# Altium footprint library Blueberry_digital.PcbLib: 39 footprints (part 1 of 3)
Each footprint in its own frame and in the unit in brackets; x right, y up, seen from the top. Pads: shape width x height; smd on the part's side, far side on the other; paste and mask are expansions set on the pad; w line width, h text height; cw(c..) or ccw(c..) is an arc to the next point about the centre after c.
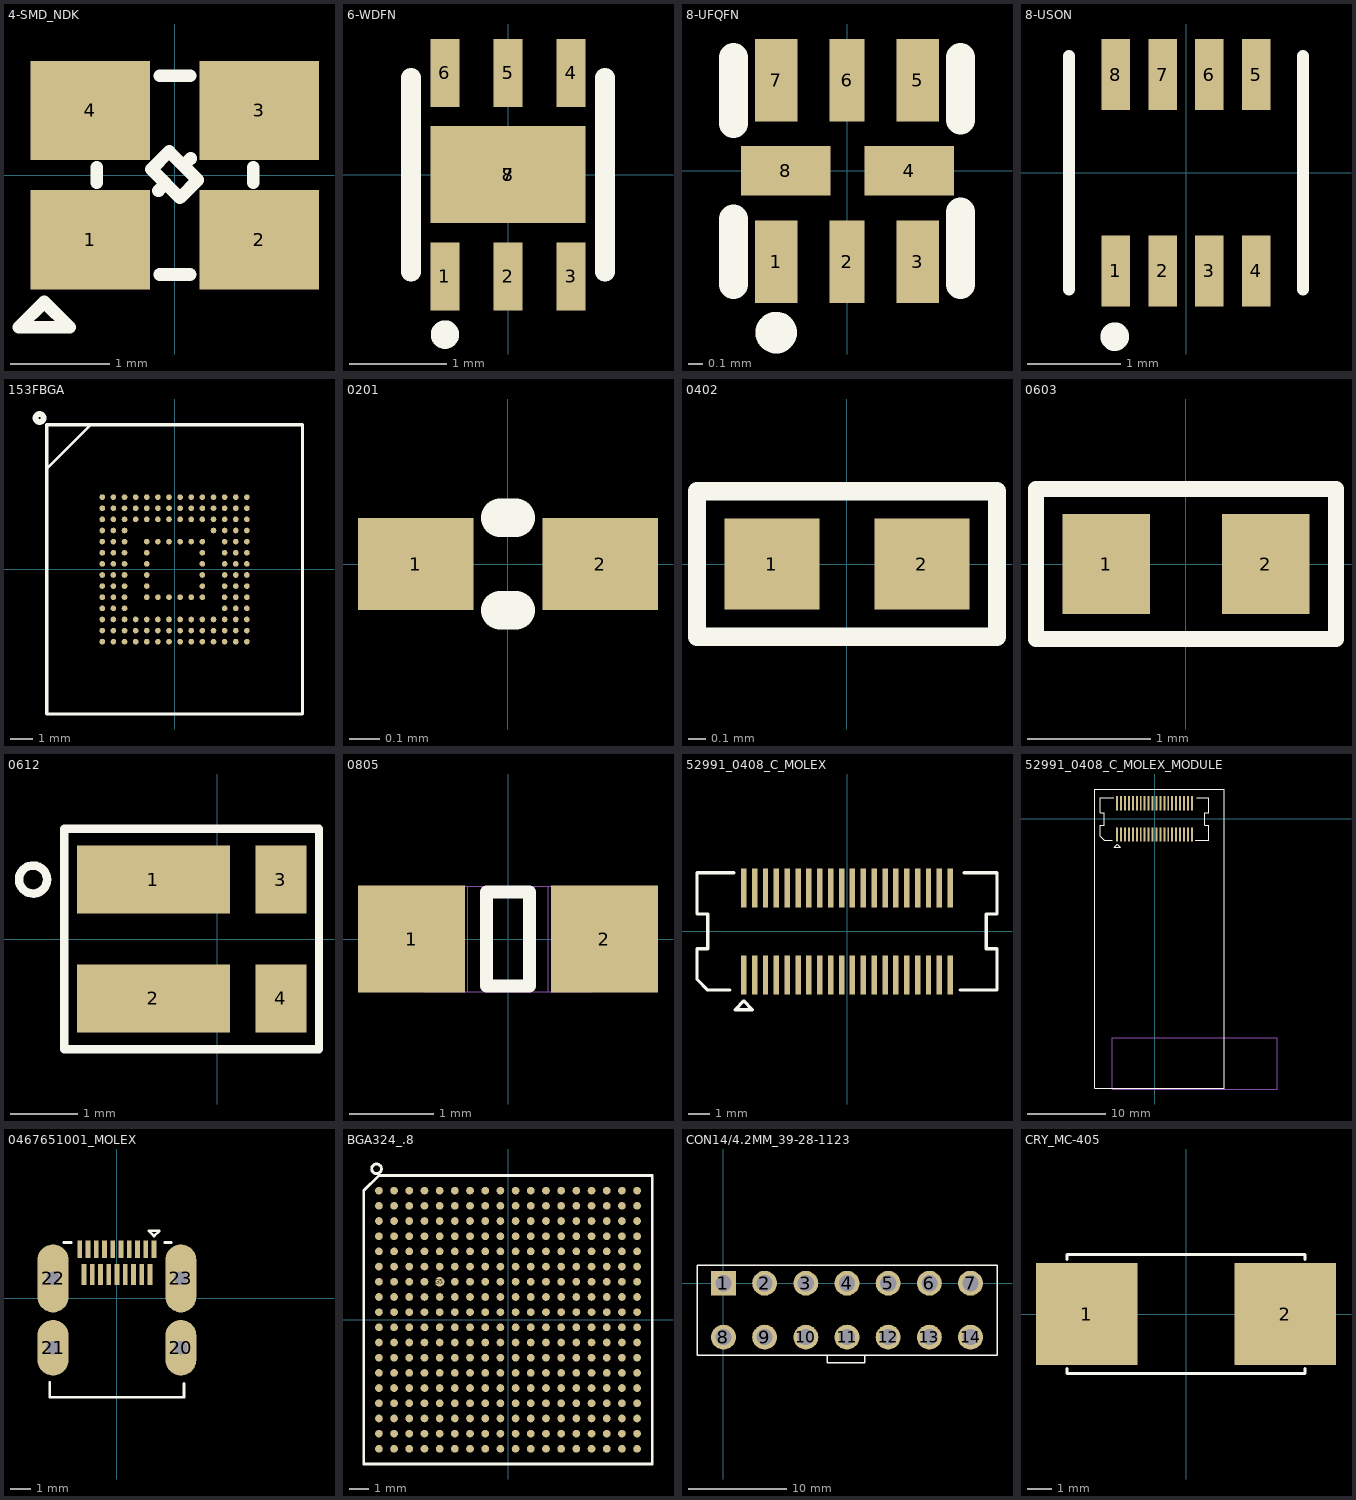
[diagram p0: the footprints below, top view; thin cyan lines are the x and y axes]

## 4-SMD_NDK [mm]
pads (4):
  rect 1.2x1 smd: 1(-0.85,-0.65) 2(0.85,-0.65) 3(0.85,0.65) 4(-0.85,0.65)
Top Overlay:
  lines w0.127: -0.787,-0.076 -0.787,0.076 ; -0.165,-0.157 -0.093,-0.085 ; -0.152,-1 0.152,-1 ; -0.152,1 0.152,1 ; 0.087,0.095 0.159,0.167 ; 0.787,-0.076 0.787,0.076 ; -1.568,-1.53 -1.06,-1.53 -1.314,-1.276 -1.568,-1.53 ; -0.237,0.059 -0.057,0.238 0.23,-0.049 0.051,-0.229 -0.237,0.059

## 6-WDFN [mm]
pads (8):
  rect 0.3x0.7 smd: 1(-0.65,-1.05) 2(0,-1.05) 3(0.65,-1.05) 4(0.65,1.05) 5(0,1.05) 6(-0.65,1.05)
  rect 1.6x1 smd paste-0.8: 7(0,0)
  rect 1.4x0.8 on Top Paste paste-0.8: 8(0,0)
Top Overlay:
  circle w0.203: c-0.65,-1.65 r0.045
  lines w0.203: -1,-1 -1,1 ; 1,-1 1,1

## 8-UFQFN [mm]
pads (8):
  rect 0.3x0.58 smd: 1(-0.5,-0.64) 3(0.5,-0.64) 5(0.5,0.64) 7(-0.5,0.64)
  rect 0.25x0.58 smd: 2(0,-0.64) 6(0,0.64)
  rect 0.63x0.35 smd: 4(0.438,0) 8(-0.432,0)
Top Overlay:
  circle w0.203: c-0.5,-1.14 r0.045
  lines w0.203: -0.8,-0.8 -0.8,-0.34 ; -0.8,0.335 -0.8,0.8 ; 0.8,-0.8 0.8,-0.29 ; 0.8,0.36 0.8,0.8

## 8-USON [mm]
pads (8):
  rect 0.305x0.762 smd: 1(-0.75,-1.05) 2(-0.25,-1.05) 3(0.25,-1.05) 4(0.75,-1.05) 5(0.75,1.05) 6(0.25,1.05) 7(-0.25,1.05) 8(-0.75,1.05)
Top Overlay:
  circle w0.254: c-0.762,-1.753 r0.025
  lines w0.127: -1.25,-1.25 -1.25,1.25 ; 1.25,-1.25 1.25,1.25

## 153FBGA [mm]
pads (153):
  round 0.254 smd: A1(-3.25,3.25) A2(-2.75,3.25) A3(-2.25,3.25) A4(-1.75,3.25) A5(-1.25,3.25) A6(-0.75,3.25) A7(-0.25,3.25) A8(0.25,3.25) A9(0.75,3.25) A10(1.25,3.25) A11(1.75,3.25) A12(2.25,3.25) A13(2.75,3.25) A14(3.25,3.25) B1(-3.25,2.75) B2(-2.75,2.75) B3(-2.25,2.75) B4(-1.75,2.75) B5(-1.25,2.75) B6(-0.75,2.75) B7(-0.25,2.75) B8(0.25,2.75) B9(0.75,2.75) B10(1.25,2.75) B11(1.75,2.75) B12(2.25,2.75) B13(2.75,2.75) B14(3.25,2.75) C1(-3.25,2.25) C2(-2.75,2.25) C3(-2.25,2.25) C4(-1.75,2.25) C5(-1.25,2.25) C6(-0.75,2.25) C7(-0.25,2.25) C8(0.25,2.25) C9(0.75,2.25) C10(1.25,2.25) C11(1.75,2.25) C12(2.25,2.25) C13(2.75,2.25) C14(3.25,2.25) D1(-3.25,1.75) D2(-2.75,1.75) D3(-2.25,1.75) D11(1.75,1.75) D12(2.25,1.75) D13(2.75,1.75) D14(3.25,1.75) E1(-3.25,1.25) E2(-2.75,1.25) E3(-2.25,1.25) E5(-1.25,1.25) E6(-0.75,1.25) E7(-0.25,1.25) E8(0.25,1.25) E9(0.75,1.25) E10(1.25,1.25) E12(2.25,1.25) E13(2.75,1.25) E14(3.25,1.25) F1(-3.25,0.75) F2(-2.75,0.75) F3(-2.25,0.75) F5(-1.25,0.75) F10(1.25,0.75) F12(2.25,0.75) F13(2.75,0.75) F14(3.25,0.75) G1(-3.25,0.25) G2(-2.75,0.25) G3(-2.25,0.25) G5(-1.25,0.25) G10(1.25,0.25) G12(2.25,0.25) G13(2.75,0.25) G14(3.25,0.25) H1(-3.25,-0.25) H2(-2.75,-0.25) H3(-2.25,-0.25) H5(-1.25,-0.25) H10(1.25,-0.25) H12(2.25,-0.25) H13(2.75,-0.25) H14(3.25,-0.25) J1(-3.25,-0.75) J2(-2.75,-0.75) J3(-2.25,-0.75) J5(-1.25,-0.75) J10(1.25,-0.75) J12(2.25,-0.75) J13(2.75,-0.75) J14(3.25,-0.75) K1(-3.25,-1.25) K2(-2.75,-1.25) K3(-2.25,-1.25) K5(-1.25,-1.25) K6(-0.75,-1.25) K7(-0.25,-1.25) K8(0.25,-1.25) K9(0.75,-1.25) K10(1.25,-1.25) K12(2.25,-1.25) K13(2.75,-1.25) K14(3.25,-1.25) L1(-3.25,-1.75) L2(-2.75,-1.75) L3(-2.25,-1.75) L12(2.25,-1.75) L13(2.75,-1.75) L14(3.25,-1.75) M1(-3.25,-2.25) M2(-2.75,-2.25) M3(-2.25,-2.25) M4(-1.75,-2.25) M5(-1.25,-2.25) M6(-0.75,-2.25) M7(-0.25,-2.25) M8(0.25,-2.25) M9(0.75,-2.25) M10(1.25,-2.25) M11(1.75,-2.25) M12(2.25,-2.25) M13(2.75,-2.25) M14(3.25,-2.25) N1(-3.25,-2.75) N2(-2.75,-2.75) N3(-2.25,-2.75) N4(-1.75,-2.75) N5(-1.25,-2.75) N6(-0.75,-2.75) N7(-0.25,-2.75) N8(0.25,-2.75) N9(0.75,-2.75) N10(1.25,-2.75) N11(1.75,-2.75) N12(2.25,-2.75) N13(2.75,-2.75) N14(3.25,-2.75) P1(-3.25,-3.25) P2(-2.75,-3.25) P3(-2.25,-3.25) P4(-1.75,-3.25) P5(-1.25,-3.25) P6(-0.75,-3.25) P7(-0.25,-3.25) P8(0.25,-3.25) P9(0.75,-3.25) P10(1.25,-3.25) P11(1.75,-3.25) P12(2.25,-3.25) P13(2.75,-3.25) P14(3.25,-3.25)
Top Overlay:
  circle w0.254: c-6.071,6.807 r0.18
  lines w0.127: -5.75,4.521 -3.771,6.5
  lines w0.152: -5.75,-6.5 -5.75,6.5 5.75,6.5 5.75,-6.5 -5.75,-6.5

## 0201 [mil]
height 55.12
pads (2):
  rect 15x12 smd: 1(-12,0) 2(12,0)
Top Overlay:
  lines w5: -1,-6 1,-6 ; -1,6 1,6

## 0402 [mil]
height 55.12
pads (2):
  rect 21x20 smd: 1(-16.5,0) 2(16.5,0)
Top Overlay:
  lines w4: -33,-16 -33,16 33,16 33,-16 -33,-16

## 0603 [mil]
pads (2):
  rect 28x32 smd: 1(-25.5,0) 2(25.5,0)
Top Overlay:
  lines w5: -48,-24 -48,24 48,24 48,-24 -48,-24

## 0612 [mil]
pads (4):
  rect 90x40 smd: 1(-37.5,35) 2(-37.5,-35)
  rect 30x40 smd: 3(37.5,35) 4(37.5,-35)
Top Overlay:
  circle w5: c-108.25,35 r8.25
  lines w5: -90,-65 -90,65 60,65 60,-65 -90,-65

## 0805 [mil]
height 55.12
pads (2):
  rect 50x50 smd: 1(-45,0) 2(45,0)
Top Overlay:
  lines w6: -10,-22 -10,22 10,22 10,-22 -10,-22
Mechanical 13:
  lines w0.39: -39.37,-24.61 -18.7,-24.61 ; -39.37,-24.61 -39.37,24.61 ; -39.37,-24.61 39.37,-24.61 ; -39.37,-24.61 -39.37,24.61 ; -39.37,24.61 -18.7,24.61 ; -39.37,24.61 39.37,24.61 ; -18.7,-24.61 18.7,-24.61 ; -18.7,-24.61 -18.7,24.61 ; -18.7,-24.61 -18.7,24.61 ; -18.7,24.61 18.7,24.61 ; 18.7,-24.61 18.7,24.61 ; 18.7,-24.61 18.7,24.61 ; 18.7,-24.61 18.7,24.61 ; 18.7,-24.61 39.37,-24.61 ; 18.7,24.61 39.37,24.61 ; 39.37,-24.61 39.37,24.61 ; 39.37,-24.61 39.37,24.61

## 52991_0408_C_MOLEX [mm]
pads (40):
  rect 0.25x1.8 smd: 1(-4.75,-2) 2(-4.75,2) 3(-4.25,-2) 4(-4.25,2) 5(-3.75,-2) 6(-3.75,2) 7(-3.25,-2) 8(-3.25,2) 9(-2.75,-2) 10(-2.75,2) 11(-2.25,-2) 12(-2.25,2) 13(-1.75,-2) 14(-1.75,2) 15(-1.25,-2) 16(-1.25,2) 17(-0.75,-2) 18(-0.75,2) 19(-0.25,-2) 20(-0.25,2) 21(0.25,-2) 22(0.25,2) 23(0.75,-2) 24(0.75,2) 25(1.25,-2) 26(1.25,2) 27(1.75,-2) 28(1.75,2) 29(2.25,-2) 30(2.25,2) 31(2.75,-2) 32(2.75,2) 33(3.25,-2) 34(3.25,2) 35(3.75,-2) 36(3.75,2) 37(4.25,-2) 38(4.25,2) 39(4.75,-2) 40(4.75,2)
Top Overlay:
  lines w0.152: -5.4,-2.7 -6.4,-2.7 -6.9,-2.2 -6.9,-0.8 -6.4,-0.8 -6.4,0.8 -6.9,0.8 -6.9,2.7 -5.2,2.7 ; 5.2,-2.7 6.9,-2.7 6.9,-0.8 6.4,-0.8 6.4,0.8 6.9,0.8 6.9,2.7 5.4,2.7 ; -5.15,-3.6 -4.35,-3.6 -4.75,-3.2 -5.15,-3.6

## 52991_0408_C_MOLEX_MODULE [mm]
pads (44):
  rect 0.25x1.8 on Drill Guide: 1(-4.75,-32.48) 2(-4.75,-28.48) 39(4.75,-32.48) 40(4.75,-28.48)
  rect 0.25x1.8 smd: 1(-4.75,-2) 2(-4.75,2) 3(-4.25,-2) 4(-4.25,2) 5(-3.75,-2) 6(-3.75,2) 7(-3.25,-2) 8(-3.25,2) 9(-2.75,-2) 10(-2.75,2) 11(-2.25,-2) 12(-2.25,2) 13(-1.75,-2) 14(-1.75,2) 15(-1.25,-2) 16(-1.25,2) 17(-0.75,-2) 18(-0.75,2) 19(-0.25,-2) 20(-0.25,2) 21(0.25,-2) 22(0.25,2) 23(0.75,-2) 24(0.75,2) 25(1.25,-2) 26(1.25,2) 27(1.75,-2) 28(1.75,2) 29(2.25,-2) 30(2.25,2) 31(2.75,-2) 32(2.75,2) 33(3.25,-2) 34(3.25,2) 35(3.75,-2) 36(3.75,2) 37(4.25,-2) 38(4.25,2) 39(4.75,-2) 40(4.75,2)
Top Overlay:
  lines w0.127: -7.62,-34.29 -7.62,3.81 8.89,3.81 8.89,-34.29 -7.62,-34.29
  lines w0.152: -5.4,-2.7 -6.4,-2.7 -6.9,-2.2 -6.9,-0.8 -6.4,-0.8 -6.4,0.8 -6.9,0.8 -6.9,2.7 -5.2,2.7 ; 5.2,-2.7 6.9,-2.7 6.9,-0.8 6.4,-0.8 6.4,0.8 6.9,0.8 6.9,2.7 5.4,2.7 ; -5.15,-3.6 -4.35,-3.6 -4.75,-3.2 -5.15,-3.6
Drill Guide:
  lines w0.152: -5.15,-34.08 -4.75,-33.68 -4.35,-34.08 -5.15,-34.08
Mechanical 5:
  lines w0.127: -5.365,-34.365 15.635,-34.365 15.635,-27.865 -5.365,-27.865 -5.365,-34.365

## 0467651001_MOLEX [mm]
pads (23):
  rect 0.23x0.85 smd: 1(1.8,2.388) 3(1.4,2.388) 5(1,2.388) 7(0.6,2.388) 9(0.2,2.388) 11(-0.2,2.388) 13(-0.6,2.388) 15(-1,2.388) 17(-1.4,2.388) 19(-1.8,2.388)
  rect 0.23x1 smd: 2(1.6,1.162) 4(1.2,1.162) 6(0.8,1.162) 8(0.4,1.162) 10(0,1.162) 12(-0.4,1.162) 14(-0.8,1.162) 16(-1.2,1.162) 18(-1.6,1.162)
  oval 1.5x2.7 hole 0.66: 20(3.1,-2.387) 21(-3.1,-2.387)
  oval 1.5x3.3 hole 0.66: 22(-3.1,0.972) 23(3.1,0.972)
Top Overlay:
  lines w0.127: -3.25,-4.075 -3.25,-4.788 ; -2.575,2.712 -2.225,2.712 ; 2.325,2.712 2.625,2.712 ; 3.25,-4.125 3.25,-4.788 ; -3.25,-4.788 3.25,-4.788 ; -3.25,-4.788 3.25,-4.788 ; 1.546,3.277 1.8,3.023 2.054,3.277 1.546,3.277
Drill Guide:
  lines w0.102: -0.232,-2.311 3.959,-0.406
  lines w0.127: -4.2,-4.088 9.8,-4.088 ; -2.35,-4.087 -2.35,0.253 2.35,0.253 2.35,-4.087
  text "keep out area" at 15.24,-0.009 h1.14
  text "pcb edge" at 12.7,-3.057 h1.14
Mechanical 14:
  text "DigiKey# WM1282CT-ND" at 4.804,10.676 h1.14
  text "Part# 0467651001" at 4.677,8.644 h1.14
  text "CONN RCPT HDMI MICRO TYPE-D R/A" at 4.677,6.739 h1.14
  text "Molex" at 4.55,4.961 h1.14
Drill Drawing:
  text "26 drills = 26  x 101mil slots, 4 plcs" at 33.35,-63.777 h2.54

## BGA324_.8 [mm]
pads (324):
  round 0.406 smd: A1(-6.8,6.8) A2(-6,6.8) A3(-5.2,6.8) A4(-4.4,6.8) A5(-3.6,6.8) A6(-2.8,6.8) A7(-2,6.8) A8(-1.2,6.8) A9(-0.4,6.8) A10(0.4,6.8) A11(1.2,6.8) A12(2,6.8) A13(2.8,6.8) A14(3.6,6.8) A15(4.4,6.8) A16(5.2,6.8) A17(6,6.8) A18(6.8,6.8) B1(-6.8,6) B2(-6,6) B3(-5.2,6) B4(-4.4,6) B5(-3.6,6) B6(-2.8,6) B7(-2,6) B8(-1.2,6) B9(-0.4,6) B10(0.4,6) B11(1.2,6) B12(2,6) B13(2.8,6) B14(3.6,6) B15(4.4,6) B16(5.2,6) B17(6,6) B18(6.8,6) C1(-6.8,5.2) C2(-6,5.2) C3(-5.2,5.2) C4(-4.4,5.2) C5(-3.6,5.2) C6(-2.8,5.2) C7(-2,5.2) C8(-1.2,5.2) C9(-0.4,5.2) C10(0.4,5.2) C11(1.2,5.2) C12(2,5.2) C13(2.8,5.2) C14(3.6,5.2) C15(4.4,5.2) C16(5.2,5.2) C17(6,5.2) C18(6.8,5.2) D1(-6.8,4.4) D2(-6,4.4) D3(-5.2,4.4) D4(-4.4,4.4) D5(-3.6,4.4) D6(-2.8,4.4) D7(-2,4.4) D8(-1.2,4.4) D9(-0.4,4.4) D10(0.4,4.4) D11(1.2,4.4) D12(2,4.4) D13(2.8,4.4) D14(3.6,4.4) D15(4.4,4.4) D16(5.2,4.4) D17(6,4.4) D18(6.8,4.4) E1(-6.8,3.6) E2(-6,3.6) E3(-5.2,3.6) E4(-4.4,3.6) E5(-3.6,3.6) E6(-2.8,3.6) E7(-2,3.6) E8(-1.2,3.6) E9(-0.4,3.6) E10(0.4,3.6) E11(1.2,3.6) E12(2,3.6) E13(2.8,3.6) E14(3.6,3.6) E15(4.4,3.6) E16(5.2,3.6) E17(6,3.6) E18(6.8,3.6) F1(-6.8,2.8) F2(-6,2.8) F3(-5.2,2.8) F4(-4.4,2.8) F5(-3.6,2.8) F6(-2.8,2.8) F7(-2,2.8) F8(-1.2,2.8) F9(-0.4,2.8) F10(0.4,2.8) F11(1.2,2.8) F12(2,2.8) F13(2.8,2.8) F14(3.6,2.8) F15(4.4,2.8) F16(5.2,2.8) F17(6,2.8) F18(6.8,2.8) G1(-6.8,2) G2(-6,2) G3(-5.2,2) G4(-4.4,2) G6(-2.8,2) G7(-2,2) G8(-1.2,2) G9(-0.4,2) G10(0.4,2) G11(1.2,2) G12(2,2) G13(2.8,2) G14(3.6,2) G15(4.4,2) G16(5.2,2) G17(6,2) G18(6.8,2) H1(-6.8,1.2) H2(-6,1.2) H3(-5.2,1.2) H4(-4.4,1.2) H5(-3.6,1.2) H6(-2.8,1.2) H7(-2,1.2) H8(-1.2,1.2) H9(-0.4,1.2) H10(0.4,1.2) H11(1.2,1.2) H12(2,1.2) H13(2.8,1.2) H14(3.6,1.2) H15(4.4,1.2) H16(5.2,1.2) H17(6,1.2) H18(6.8,1.2) J1(-6.8,0.4) J2(-6,0.4) J3(-5.2,0.4) J4(-4.4,0.4) J5(-3.6,0.4) J6(-2.8,0.4) J7(-2,0.4) J8(-1.2,0.4) J9(-0.4,0.4) J10(0.4,0.4) J11(1.2,0.4) J12(2,0.4) J13(2.8,0.4) J14(3.6,0.4) J15(4.4,0.4) J16(5.2,0.4) J17(6,0.4) J18(6.8,0.4) K1(-6.8,-0.4) K2(-6,-0.4) K3(-5.2,-0.4) K4(-4.4,-0.4) K5(-3.6,-0.4) K6(-2.8,-0.4) K7(-2,-0.4) K8(-1.2,-0.4) K9(-0.4,-0.4) K10(0.4,-0.4) K11(1.2,-0.4) K12(2,-0.4) K13(2.8,-0.4) K14(3.6,-0.4) K15(4.4,-0.4) K16(5.2,-0.4) K17(6,-0.4) K18(6.8,-0.4) L1(-6.8,-1.2) L2(-6,-1.2) L3(-5.2,-1.2) L4(-4.4,-1.2) L5(-3.6,-1.2) L6(-2.8,-1.2) L7(-2,-1.2) L8(-1.2,-1.2) L9(-0.4,-1.2) L10(0.4,-1.2) L11(1.2,-1.2) L12(2,-1.2) L13(2.8,-1.2) L14(3.6,-1.2) L15(4.4,-1.2) L16(5.2,-1.2) L17(6,-1.2) L18(6.8,-1.2) M1(-6.8,-2) M2(-6,-2) M3(-5.2,-2) M4(-4.4,-2) M5(-3.6,-2) M6(-2.8,-2) M7(-2,-2) M8(-1.2,-2) M9(-0.4,-2) M10(0.4,-2) M11(1.2,-2) M12(2,-2) M13(2.8,-2) M14(3.6,-2) M15(4.4,-2) M16(5.2,-2) M17(6,-2) M18(6.8,-2) N1(-6.8,-2.8) N2(-6,-2.8) N3(-5.2,-2.8) N4(-4.4,-2.8) N5(-3.6,-2.8) N6(-2.8,-2.8) N7(-2,-2.8) N8(-1.2,-2.8) N9(-0.4,-2.8) N10(0.4,-2.8) N11(1.2,-2.8) N12(2,-2.8) N13(2.8,-2.8) N14(3.6,-2.8) N15(4.4,-2.8) N16(5.2,-2.8) N17(6,-2.8) N18(6.8,-2.8) P1(-6.8,-3.6) P2(-6,-3.6) P3(-5.2,-3.6) P4(-4.4,-3.6) P5(-3.6,-3.6) P6(-2.8,-3.6) P7(-2,-3.6) P8(-1.2,-3.6) P9(-0.4,-3.6) P10(0.4,-3.6) P11(1.2,-3.6) P12(2,-3.6) P13(2.8,-3.6) P14(3.6,-3.6) P15(4.4,-3.6) P16(5.2,-3.6) P17(6,-3.6) P18(6.8,-3.6) R1(-6.8,-4.4) R2(-6,-4.4) R3(-5.2,-4.4) R4(-4.4,-4.4) R5(-3.6,-4.4) R6(-2.8,-4.4) R7(-2,-4.4) R8(-1.2,-4.4) R9(-0.4,-4.4) R10(0.4,-4.4) R11(1.2,-4.4) R12(2,-4.4) R13(2.8,-4.4) R14(3.6,-4.4) R15(4.4,-4.4) R16(5.2,-4.4) R17(6,-4.4) R18(6.8,-4.4) T1(-6.8,-5.2) T2(-6,-5.2) T3(-5.2,-5.2) T4(-4.4,-5.2) T5(-3.6,-5.2) T6(-2.8,-5.2) T7(-2,-5.2) T8(-1.2,-5.2) T9(-0.4,-5.2) T10(0.4,-5.2) T11(1.2,-5.2) T12(2,-5.2) T13(2.8,-5.2) T14(3.6,-5.2) T15(4.4,-5.2) T16(5.2,-5.2) T17(6,-5.2) T18(6.8,-5.2) U1(-6.8,-6) U2(-6,-6) U3(-5.2,-6) U4(-4.4,-6) U5(-3.6,-6) U6(-2.8,-6) U7(-2,-6) U8(-1.2,-6) U9(-0.4,-6) U10(0.4,-6) U11(1.2,-6) U12(2,-6) U13(2.8,-6) U14(3.6,-6) U15(4.4,-6) U16(5.2,-6) U17(6,-6) U18(6.8,-6) V1(-6.8,-6.8) V2(-6,-6.8) V3(-5.2,-6.8) V4(-4.4,-6.8) V5(-3.6,-6.8) V6(-2.8,-6.8) V7(-2,-6.8) V8(-1.2,-6.8) V9(-0.4,-6.8) V10(0.4,-6.8) V11(1.2,-6.8) V12(2,-6.8) V13(2.8,-6.8) V14(3.6,-6.8) V15(4.4,-6.8) V16(5.2,-6.8) V17(6,-6.8) V18(6.8,-6.8)
  round 0.5 smd: G5(-3.6,2)
Top Overlay:
  lines w0.152: -7.6,-7.6 -7.6,6.8 -6.8,7.6 7.6,7.6 7.6,-7.6 -7.6,-7.6 ; -6.926,7.696 ccw(c-6.926,7.95) -6.926,8.204 ccw(c-6.926,7.95) -6.926,7.696

## CON14/4.2MM_39-28-1123 [mm]
pads (14):
  rect 2.54x2.54 hole 1.651: 1(0,0)
  round 2.54 hole 1.651: 2(4.2,0) 3(8.4,0) 4(12.6,0) 5(16.8,0) 6(21,0) 7(25.2,0) 8(0,-5.5) 9(4.2,-5.5) 10(8.4,-5.5) 11(12.6,-5.5) 12(16.8,-5.5) 13(21,-5.5) 14(25.2,-5.5)
Top Overlay:
  lines w0.152: 10.6,-7.366 10.6,-8.128 14.4,-8.128 14.4,-7.366 ; -2.7,-7.35 -2.7,1.85 27.9,1.85 27.9,-7.35 -2.7,-7.35

## CRY_MC-405 [mm]
pads (2):
  rect 4.1x4.1 smd: 1(-4,0) 2(4,0)
Top Overlay:
  lines w0.127: -4.8,-2.2 -4.8,-2.4 4.8,-2.4 4.8,-2.2 ; -4.8,2.2 -4.8,2.4 4.8,2.4 4.8,2.2